# Altium footprint library ECS-250-6-37QZ-RES-TR.PcbLib: 1 footprints
Each footprint in its own frame and in the unit in brackets; x right, y up, seen from the top. Pads: shape width x height; smd on the part's side, far side on the other; paste and mask are expansions set on the pad; w line width, h text height; cw(c..) or ccw(c..) is an arc to the next point about the centre after c.
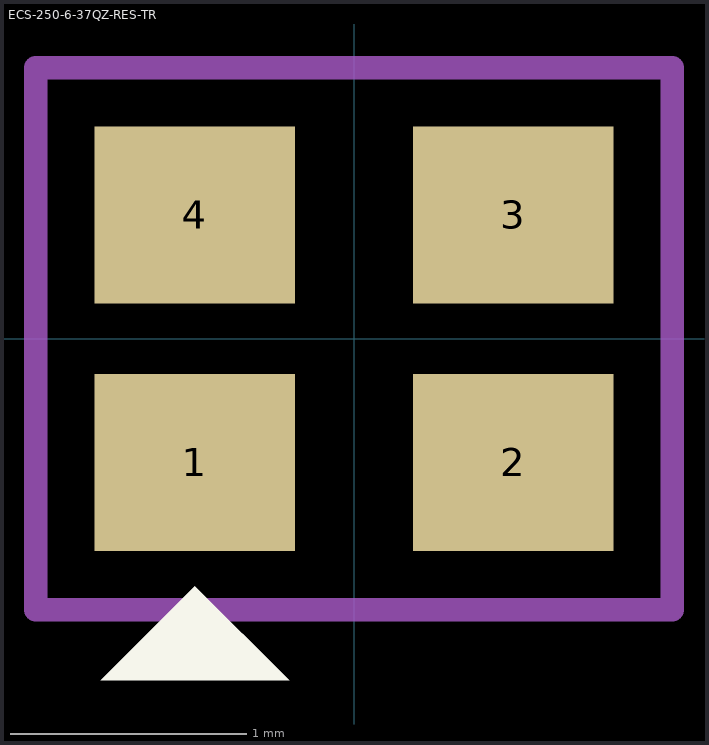
[diagram p0: the footprint, top view; thin cyan lines are the x and y axes]

## ECS-250-6-37QZ-RES-TR [mm]
pads (4):
  rect 0.85x0.75 smd: 1(-0.675,-0.525) 2(0.675,-0.525) 3(0.675,0.525) 4(-0.675,0.525)
Top Overlay:
  region: -0.275,-1.45 -1.075,-1.45 -0.675,-1.05
Top Courtyard:
  lines w0.1: -1.35,-1.15 1.35,-1.15 1.35,1.15 -1.35,1.15 -1.35,-1.148
3D body "ECS-250-6-37QZ-RES-TR.stp": height 0.44, standoff -0.01, extent -1,-0.8 1,0.8